# Altium footprint library dio.PcbLib: 50 footprints (part 2 of 4)
Each footprint in its own frame and in the unit in brackets; x right, y up, seen from the top. Pads: shape width x height; smd on the part's side, far side on the other; paste and mask are expansions set on the pad; w line width, h text height; cw(c..) or ccw(c..) is an arc to the next point about the centre after c.
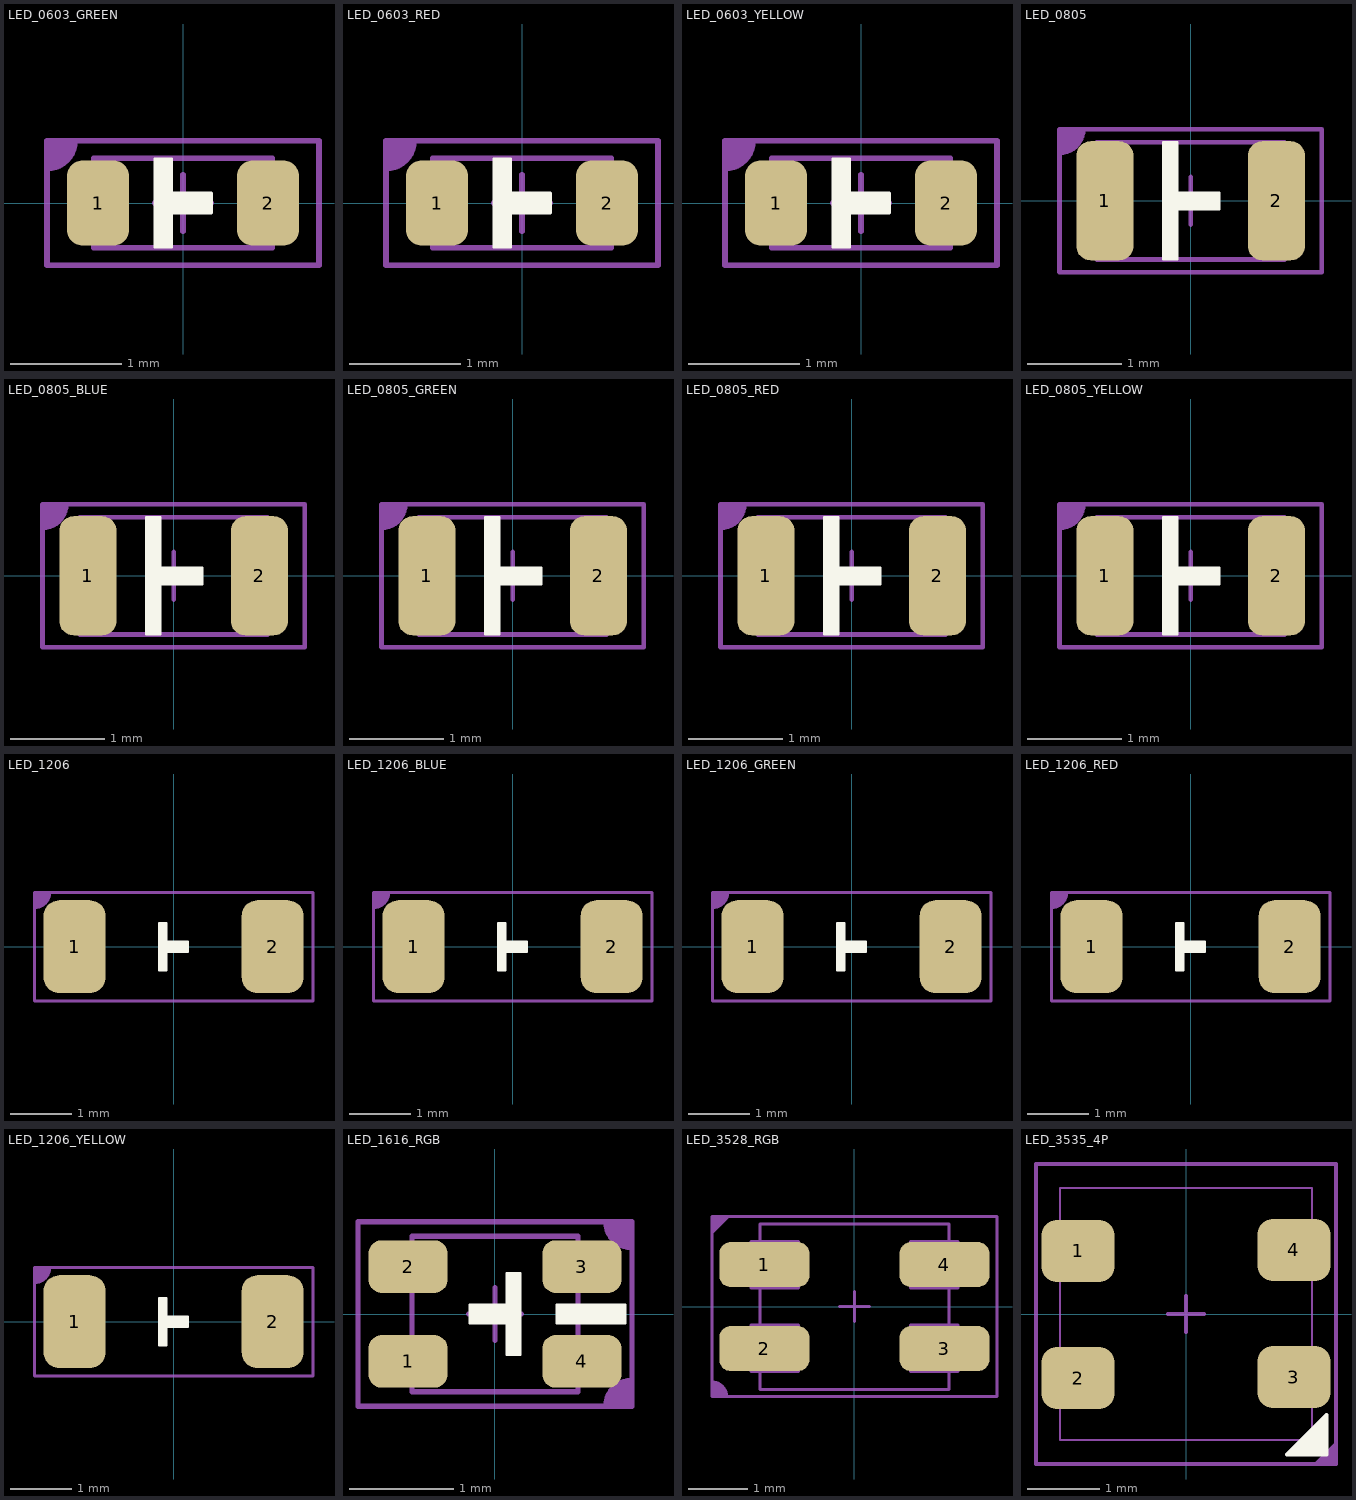
[diagram p1: the footprints below, top view; thin cyan lines are the x and y axes]

## LED_0603_GREEN [mil]
height 31.5
pads (2):
  rrect50% 22x30 smd: 1(-30,0) 2(30,0)
Top Overlay:
  region: -10,15.5 -4,15.5 -4,3.5 10,3.5 10,-3.5 -4,-3.5 -4,-15.5 -10,-15.5
  lines w1: -10,-15.5 -10,15.5 -4,15.5 -4,3.5 10,3.5 10,-3.5 -4,-3.5 -4,-15.5 -10,-15.5
Mechanical 13:
  lines w2: -10,0 10,0 ; 0,-10 0,10 ; -31.5,-15.75 -31.5,15.75 31.5,15.75 31.5,-15.75 -31.5,-15.75
Top Component:
  region: -48,22 -48,12.1 -47.1,13 -43,13 -38.1,17.9 -38.1,22
  lines w2: -48,12.1 ccw(c-48,22) -38.1,22 ; -48,-22 48,-22 48,22 -48,22 -48,-22
  text ".Designator" at -12,-8 h30
3D body "LED 0603 Base GREEN.STEP": height 11.02, standoff 0, extent -31.49,-15.74 31.5,15.76
3D body "LED 0603 Lens GREEN.STEP": height 20.87, standoff 7.09, extent -21.65,-15.74 21.66,15.75

## LED_0603_RED [mil]
height 31.5
pads (2):
  rrect50% 22x30 smd: 1(-30,0) 2(30,0)
Top Overlay:
  region: -10,15.5 -4,15.5 -4,3.5 10,3.5 10,-3.5 -4,-3.5 -4,-15.5 -10,-15.5
  lines w1: -10,-15.5 -4,-15.5 -4,-3.5 10,-3.5 10,3.5 -4,3.5 -4,15.5 -10,15.5 -10,-15.5
Mechanical 13:
  lines w2: -10,0 10,0 ; 0,-10 0,10 ; -31.5,-15.75 -31.5,15.75 31.5,15.75 31.5,-15.75 -31.5,-15.75
Top Component:
  region: -48,22 -48,12.1 -47.1,13 -43,13 -38.1,17.9 -38.1,22
  lines w2: -48,12.1 ccw(c-48,22) -38.1,22 ; -48,-22 48,-22 48,22 -48,22 -48,-22
  text ".Designator" at -12,-8 h30
3D body "LED 0603 Lens RED.STEP": height 20.87, standoff 7.09, extent -21.65,-15.74 21.66,15.75
3D body "LED 0603 Base RED.STEP": height 11.02, standoff 0, extent -31.49,-15.74 31.5,15.75

## LED_0603_YELLOW [mil]
height 31.5
pads (2):
  rrect50% 22x30 smd: 1(-30,0) 2(30,0)
Top Overlay:
  region: -10,15.5 -4,15.5 -4,3.5 10,3.5 10,-3.5 -4,-3.5 -4,-15.5 -10,-15.5
  lines w1: -10,-15.5 -4,-15.5 -4,-3.5 10,-3.5 10,3.5 -4,3.5 -4,15.5 -10,15.5 -10,-15.5
Mechanical 13:
  lines w2: -10,0 10,0 ; 0,-10 0,10 ; -31.5,-15.75 31.5,-15.75 31.5,15.75 -31.5,15.75 -31.5,-15.75
Top Component:
  region: -48,22 -48,12.1 -47.1,13 -43,13 -38.1,17.9 -38.1,22
  lines w2: -48,12.1 ccw(c-48,22) -38.1,22 ; -48,-22 48,-22 48,22 -48,22 -48,-22
  text ".Designator" at -12,-8 h30
3D body "LED 0603 Base YELLOW.STEP": height 11.02, standoff 0, extent -31.49,-15.74 31.5,15.76
3D body "LED 0603 Lens YELLOW.STEP": height 20.87, standoff 7.09, extent -21.65,-15.74 21.66,15.75

## LED_0805 [mil]
height 47.24
pads (2):
  rrect50% 24x50 smd: 1(-36,0) 2(36,0)
Top Overlay:
  region: -11.5,24.5 -5.5,24.5 -5.5,3.5 12,3.5 12,-3.5 -5.5,-3.5 -5.5,-24.5 -11.5,-24.5
  lines w1: -11.5,-24.5 -5.5,-24.5 -5.5,-3.5 12,-3.5 12,3.5 -5.5,3.5 -5.5,24.5 -11.5,24.5 -11.5,-24.5
Mechanical 13:
  lines w2: -10,0 10,0 ; 0,-10 0,10 ; -39.37,-24.61 -39.37,24.61 39.37,24.61 39.37,-24.61 -39.37,-24.61
Top Component:
  region: -55,30 -55,20.1 -54.1,21 -50,21 -45.1,25.9 -45.1,30
  lines w2: -55,20.1 ccw(c-55,30) -45.1,30 ; -55,-30 55,-30 55,30 -55,30 -55,-30
  text ".Designator" at -12,-8 h30
3D body "LED 0805 Base WHITE.STEP": height 15.75, standoff 0, extent -39.36,-24.6 39.38,24.61
3D body "LED 0805 Lens WHITE.STEP": height 35.43, standoff 11.81, extent -25.58,-24.6 25.6,24.61

## LED_0805_BLUE [mil]
height 47.24
pads (2):
  rrect50% 24x50 smd: 1(-36,0) 2(36,0)
Top Overlay:
  region: -11.5,24.5 -5.5,24.5 -5.5,3.5 12,3.5 12,-3.5 -5.5,-3.5 -5.5,-24.5 -11.5,-24.5
  lines w1: -11.5,-24.5 -5.5,-24.5 -5.5,-3.5 12,-3.5 12,3.5 -5.5,3.5 -5.5,24.5 -11.5,24.5 -11.5,-24.5
Mechanical 13:
  lines w2: -10,0 10,0 ; 0,-10 0,10 ; -39.37,-24.61 -39.37,24.61 39.37,24.61 39.37,-24.61 -39.37,-24.61
Top Component:
  region: -55,30 -55,20.1 -54.1,21 -50,21 -45.1,25.9 -45.1,30
  lines w2: -55,20.1 ccw(c-55,30) -45.1,30 ; -55,-30 55,-30 55,30 -55,30 -55,-30
  text ".Designator" at -12,-8 h30
3D body "LED 0805 Lens BLUE.STEP": height 35.43, standoff 11.81, extent -25.58,-24.6 25.6,24.61
3D body "LED 0805 Base BLUE.STEP": height 15.75, standoff 0, extent -39.36,-24.6 39.38,24.61

## LED_0805_GREEN [mil]
height 47.24
pads (2):
  rrect50% 24x50 smd: 1(-36,0) 2(36,0)
Top Overlay:
  region: -11.5,24.5 -5.5,24.5 -5.5,3.5 12,3.5 12,-3.5 -5.5,-3.5 -5.5,-24.5 -11.5,-24.5
  lines w1: -11.5,-24.5 -11.5,24.5 -5.5,24.5 -5.5,3.5 12,3.5 12,-3.5 -5.5,-3.5 -5.5,-24.5 -11.5,-24.5
Mechanical 13:
  lines w2: -10,0 10,0 ; 0,-10 0,10 ; -39.37,-24.61 39.37,-24.61 39.37,24.61 -39.37,24.61 -39.37,-24.61
Top Component:
  region: -55,30 -55,20.1 -54.1,21 -50,21 -45.1,25.9 -45.1,30
  lines w2: -55,20.1 ccw(c-55,30) -45.1,30 ; -55,-30 -55,30 55,30 55,-30 -55,-30
  text ".Designator" at -12,-8 h30
3D body "LED 0805 Lens GREEN.STEP": height 35.43, standoff 11.81, extent -25.58,-24.6 25.6,24.61
3D body "LED 0805 Base GREEN.STEP": height 15.75, standoff 0, extent -39.36,-24.6 39.38,24.61

## LED_0805_RED [mil]
height 47.24
pads (2):
  rrect50% 24x50 smd: 1(-36,0) 2(36,0)
Top Overlay:
  region: -11.5,24.5 -5.5,24.5 -5.5,3.5 12,3.5 12,-3.5 -5.5,-3.5 -5.5,-24.5 -11.5,-24.5
  lines w1: -11.5,-24.5 -5.5,-24.5 -5.5,-3.5 12,-3.5 12,3.5 -5.5,3.5 -5.5,24.5 -11.5,24.5 -11.5,-24.5
Mechanical 13:
  lines w2: -10,0 10,0 ; 0,-10 0,10 ; -39.37,-24.61 -39.37,24.61 39.37,24.61 39.37,-24.61 -39.37,-24.61
Top Component:
  region: -55,30 -55,20.1 -54.1,21 -50,21 -45.1,25.9 -45.1,30
  lines w2: -55,20.1 ccw(c-55,30) -45.1,30 ; -55,-30 55,-30 55,30 -55,30 -55,-30
  text ".Designator" at -12,-8 h30
3D body "LED 0805 Base RED.STEP": height 15.75, standoff 0, extent -39.36,-24.6 39.38,24.61
3D body "LED 0805 Lens RED.STEP": height 35.43, standoff 11.81, extent -25.58,-24.6 25.6,24.61

## LED_0805_YELLOW [mil]
height 47.24
pads (2):
  rrect50% 24x50 smd: 1(-36,0) 2(36,0)
Top Overlay:
  region: -11.5,24.5 -5.5,24.5 -5.5,3.5 12,3.5 12,-3.5 -5.5,-3.5 -5.5,-24.5 -11.5,-24.5
  lines w1: -11.5,-24.5 -11.5,24.5 -5.5,24.5 -5.5,3.5 12,3.5 12,-3.5 -5.5,-3.5 -5.5,-24.5 -11.5,-24.5
Mechanical 13:
  lines w2: -10,0 10,0 ; 0,-10 0,10 ; -39.37,-24.61 39.37,-24.61 39.37,24.61 -39.37,24.61 -39.37,-24.61
Top Component:
  region: -55,30 -55,20.1 -54.1,21 -50,21 -45.1,25.9 -45.1,30
  lines w2: -55,20.1 ccw(c-55,30) -45.1,30 ; -55,-30 -55,30 55,30 55,-30 -55,-30
  text ".Designator" at -12,-8 h30
3D body "LED 0805 Lens YELLOW.STEP": height 35.43, standoff 11.81, extent -25.58,-24.6 25.6,24.61
3D body "LED 0805 Base YELLOW.STEP": height 15.75, standoff 0, extent -39.36,-24.6 39.38,24.61

## LED_1206 [mil]
height 47.24
pads (2):
  rrect50% 40x60 smd: 1(-64,0) 2(64,0)
Top Overlay:
  region: -9.5,15.5 -4.5,15.5 -4.5,3.5 9.5,3.5 9.5,-3.5 -4.5,-3.5 -4.5,-15.5 -9.5,-15.5
  lines w1: -9.5,-15.5 -4.5,-15.5 -4.5,-3.5 9.5,-3.5 9.5,3.5 -4.5,3.5 -4.5,15.5 -9.5,15.5 -9.5,-15.5
Top Component:
  region: -90,35 -90,25.1 -89.1,26 -85,26 -80.1,30.9 -80.1,35
  lines w2: -90,25.1 ccw(c-90,35) -80.1,35 ; -90,-35 -90,35 90,35 90,-35 -90,-35
  text ".Designator" at -16,-10 h40
3D body "LED 1206 Lens WHITE.STEP": height 35.43, standoff 11.81, extent -29.52,-31.49 29.53,31.51
3D body "LED 1206 Base WHITE.STEP": height 15.75, standoff 0, extent -62.99,-31.49 63,31.51

## LED_1206_BLUE [mil]
height 47.24
pads (2):
  rrect50% 40x60 smd: 1(-64,0) 2(64,0)
Top Overlay:
  region: -9.5,15.5 -4.5,15.5 -4.5,3.5 9.5,3.5 9.5,-3.5 -4.5,-3.5 -4.5,-15.5 -9.5,-15.5
  lines w1: -9.5,-15.5 -4.5,-15.5 -4.5,-3.5 9.5,-3.5 9.5,3.5 -4.5,3.5 -4.5,15.5 -9.5,15.5 -9.5,-15.5
Top Component:
  region: -90,35 -90,25.1 -89.1,26 -85,26 -80.1,30.9 -80.1,35
  lines w2: -90,25.1 ccw(c-90,35) -80.1,35 ; -90,-35 -90,35 90,35 90,-35 -90,-35
  text ".Designator" at -16,-10 h40
3D body "LED 1206 Lens BLUE.STEP": height 35.43, standoff 11.81, extent -29.52,-31.49 29.53,31.51
3D body "LED 1206 Base BLUE.STEP": height 15.75, standoff 0, extent -62.99,-31.49 63,31.5

## LED_1206_GREEN [mil]
height 47.24
pads (2):
  rrect50% 40x60 smd: 1(-64,0) 2(64,0)
Top Overlay:
  region: -9.5,15.5 -4.5,15.5 -4.5,3.5 9.5,3.5 9.5,-3.5 -4.5,-3.5 -4.5,-15.5 -9.5,-15.5
  lines w1: -9.5,-15.5 -4.5,-15.5 -4.5,-3.5 9.5,-3.5 9.5,3.5 -4.5,3.5 -4.5,15.5 -9.5,15.5 -9.5,-15.5
Top Component:
  region: -90,35 -90,25.1 -89.1,26 -85,26 -80.1,30.9 -80.1,35
  lines w2: -90,25.1 ccw(c-90,35) -80.1,35 ; -90,-35 -90,35 90,35 90,-35 -90,-35
  text ".Designator" at -16,-10 h40
3D body "LED 1206 Base GREEN.STEP": height 15.75, standoff 0, extent -62.99,-31.49 63,31.5
3D body "LED 1206 Lens GREEN.STEP": height 35.43, standoff 11.81, extent -29.52,-31.49 29.53,31.51

## LED_1206_RED [mil]
height 47.24
pads (2):
  rrect50% 40x60 smd: 1(-64,0) 2(64,0)
Top Overlay:
  region: -9.5,15.5 -4.5,15.5 -4.5,3.5 9.5,3.5 9.5,-3.5 -4.5,-3.5 -4.5,-15.5 -9.5,-15.5
  lines w1: -9.5,-15.5 -9.5,15.5 -4.5,15.5 -4.5,3.5 9.5,3.5 9.5,-3.5 -4.5,-3.5 -4.5,-15.5 -9.5,-15.5
Top Component:
  region: -90,35 -90,25.1 -89.1,26 -85,26 -80.1,30.9 -80.1,35
  lines w2: -90,25.1 ccw(c-90,35) -80.1,35 ; -90,-35 90,-35 90,35 -90,35 -90,-35
  text ".Designator" at -16,-10 h40
3D body "LED 1206 Lens RED.STEP": height 35.43, standoff 11.81, extent -29.52,-31.49 29.53,31.51
3D body "LED 1206 Base RED.STEP": height 15.75, standoff 0, extent -62.99,-31.49 63,31.5

## LED_1206_YELLOW [mil]
height 47.24
pads (2):
  rrect50% 40x60 smd: 1(-64,0) 2(64,0)
Top Overlay:
  region: -9.5,15.5 -4.5,15.5 -4.5,3.5 9.5,3.5 9.5,-3.5 -4.5,-3.5 -4.5,-15.5 -9.5,-15.5
  lines w1: -9.5,-15.5 -9.5,15.5 -4.5,15.5 -4.5,3.5 9.5,3.5 9.5,-3.5 -4.5,-3.5 -4.5,-15.5 -9.5,-15.5
Top Component:
  region: -90,35 -90,25.1 -89.1,26 -85,26 -80.1,30.9 -80.1,35
  lines w2: -90,25.1 ccw(c-90,35) -80.1,35 ; -90,-35 90,-35 90,35 -90,35 -90,-35
  text ".Designator" at -16,-10 h40
3D body "LED 1206 Lens YELLOW.STEP": height 35.43, standoff 11.81, extent -29.52,-31.49 29.53,31.5
3D body "LED 1206 Base YELLOW.STEP": height 15.75, standoff 0, extent -62.99,-31.49 63,31.5

## LED_1616_RGB [mil]
height 47.24
pads (4):
  rrect50% 30x20 smd: 1(-33,-18) 2(-33,18) 3(33,18) 4(33,-18)
Top Overlay:
  region: 49.5,3.5 23.5,3.5 23.5,-3.5 49.5,-3.5
  region: 9.5,-15.5 4.5,-15.5 4.5,-3.5 -9.5,-3.5 -9.5,3.5 4.5,3.5 4.5,15.5 9.5,15.5
  lines w1: -9.5,-3.5 4.5,-3.5 4.5,-15.5 9.5,-15.5 9.5,15.5 4.5,15.5 4.5,3.5 -9.5,3.5 -9.5,-3.5 ; 23.5,-3.5 23.5,3.5 49.5,3.5 49.5,-3.5 23.5,-3.5
Mechanical 13:
  lines w2: -10,0 10,0 ; 0,-10 0,10 ; -31.49,-29.52 31.5,-29.52 31.5,29.53 -31.49,29.53 -31.49,-29.52
Top Component:
  region: 52,35 42.1,35 43,34.1 43,30 47.9,25.1 52,25.1
  region: 52,-35 52,-25.1 51.1,-26 47,-26 42.1,-30.9 42.1,-35
  lines w2: 42.1,-35 cw(c52,-35) 52,-25.1 ; 42.1,35 ccw(c52,35) 52,25.1 ; -52,-35 -52,35 52,35 52,-35 -52,-35
  text ".Designator" at -16,-10 h40
3D body "User Library-HSMF-C114.STEP": height 13.39, standoff -0.39, extent -31.49,-29.52 31.5,29.53

## LED_3528_RGB [mil]
height 47.24
pads (4):
  rrect50% 60x30 smd: 1(-60,28) 2(-60,-28) 3(60,-28) 4(60,28)
Mechanical 13:
  lines w2: -62.99,-43.43 -62.99,-55.12 62.99,-55.12 62.99,-43.43 ; -62.99,-12.4 -62.99,12.4 ; -62.99,43.43 -62.99,55.12 62.99,55.12 62.99,43.43 ; -10,0 10,0 ; 0,-10 0,10 ; 62.99,-12.4 62.99,12.4 ; -68.9,-43.31 -68.9,-12.4 -37.4,-12.4 -37.4,-43.31 -68.9,-43.31 ; -68.9,12.4 -68.9,43.31 -37.4,43.31 -37.4,12.4 -68.9,12.4 ; 37.4,-43.31 37.4,-12.4 68.9,-12.4 68.9,-43.31 37.4,-43.31 ; 37.4,12.4 37.4,43.31 68.9,43.31 68.9,12.4 37.4,12.4
Top Component:
  region: -95,-60 -85.1,-60 -86,-59.1 -86,-55 -90.9,-50.1 -95,-50.1
  region: -95,60 -95,49 -84,60
  lines w2: -95,-50.1 cw(c-95,-60) -85.1,-60 ; -95,48 -95,49 -84,60 ; -95,-60 95,-60 95,60 -95,60 -95,-60
  text ".Designator" at -16,-10 h40
3D body "User Library-KAA-3528.STEP": height 74.8, standoff 0, extent -68.9,-55.12 68.9,55.11

## LED_3535_4P [mil]
pads (4):
  rrect50% 40x34 smd: 1(-59,34.45) 2(-59,-35) 3(59,-34.45) 4(59,35)
Top Overlay:
  region: 77,-77 55,-77 77,-55
  lines w2: 55,-77 77,-77 77,-55 55,-77
Mechanical 13:
  lines w1: -68.9,-68.9 68.9,-68.9 68.9,68.9 -68.9,68.9 -68.9,-68.9
  lines w2: -10,0 10,0 ; 0,-10 0,10
Top Component:
  region: 82,-71 71,-82 82,-82
  lines w2: 71,-82 82,-71 82,-64 ; -82,-82 82,-82 82,82 -82,82 -82,-82
  text ".Designator" at -16,-10 h40
3D body "User Library-HP-XI3535.STEP": height 25.59, standoff -0.04, extent -68.9,-68.9 68.9,68.89